# Altium footprint library TE_CONN_2-1926730-5.PcbLib: 1 footprints
Each footprint in its own frame and in the unit in brackets; x right, y up, seen from the top. Pads: shape width x height; smd on the part's side, far side on the other; paste and mask are expansions set on the pad; w line width, h text height; cw(c..) or ccw(c..) is an arc to the next point about the centre after c.
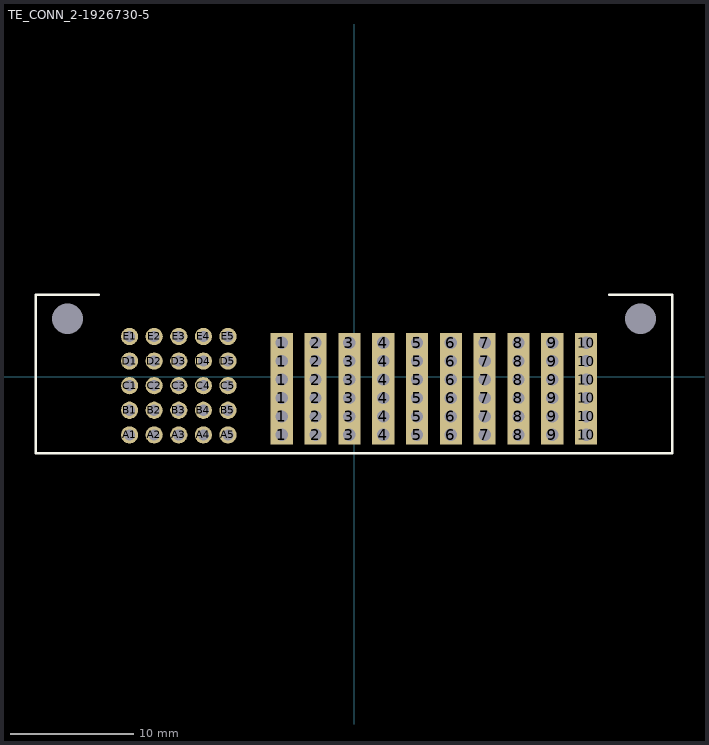
[diagram p0: the footprint, top view; thin cyan lines are the x and y axes]

## TE_CONN_2-1926730-5 [mm]
pads (87):
  round 0 hole 2.5 unplated: 0(-23.3,4.725) 0(23.3,4.725)
  rect 1.8x1.6 hole 1: 1(-5.875,-4.725) 1(-5.875,-3.225) 1(-5.875,-1.725) 1(-5.875,-0.225) 1(-5.875,1.275) 1(-5.875,2.775) 2(-3.125,-4.725) 2(-3.125,-3.225) 2(-3.125,-1.725) 2(-3.125,-0.225) 2(-3.125,1.275) 2(-3.125,2.775) 3(-0.375,-4.725) 3(-0.375,-3.225) 3(-0.375,-1.725) 3(-0.375,-0.225) 3(-0.375,1.275) 3(-0.375,2.775) 4(2.375,-4.725) 4(2.375,-3.225) 4(2.375,-1.725) 4(2.375,-0.225) 4(2.375,1.275) 4(2.375,2.775) 5(5.125,-4.725) 5(5.125,-3.225) 5(5.125,-1.725) 5(5.125,-0.225) 5(5.125,1.275) 5(5.125,2.775) 6(7.875,-4.725) 6(7.875,-3.225) 6(7.875,-1.725) 6(7.875,-0.225) 6(7.875,1.275) 6(7.875,2.775) 7(10.625,-4.725) 7(10.625,-3.225) 7(10.625,-1.725) 7(10.625,-0.225) 7(10.625,1.275) 7(10.625,2.775) 8(13.375,-4.725) 8(13.375,-3.225) 8(13.375,-1.725) 8(13.375,-0.225) 8(13.375,1.275) 8(13.375,2.775) 9(16.125,-4.725) 9(16.125,-3.225) 9(16.125,-1.725) 9(16.125,-0.225) 9(16.125,1.275) 9(16.125,2.775) 10(18.875,-4.725) 10(18.875,-3.225) 10(18.875,-1.725) 10(18.875,-0.225) 10(18.875,1.275) 10(18.875,2.775)
  round 1.4 hole 0.9: A1(-18.25,-4.725) A2(-16.25,-4.725) A3(-14.25,-4.725) A4(-12.25,-4.725) A5(-10.25,-4.725) B1(-18.25,-2.725) B2(-16.25,-2.725) B3(-14.25,-2.725) B4(-12.25,-2.725) B5(-10.25,-2.725) C1(-18.25,-0.725) C2(-16.25,-0.725) C3(-14.25,-0.725) C4(-12.25,-0.725) C5(-10.25,-0.725) D1(-18.25,1.275) D2(-16.25,1.275) D3(-14.25,1.275) D4(-12.25,1.275) D5(-10.25,1.275) E1(-18.25,3.275) E2(-16.25,3.275) E3(-14.25,3.275) E4(-12.25,3.275) E5(-10.25,3.275)
Top Overlay:
  lines w0.2: -20.775,6.675 -25.875,6.675 -25.875,-6.225 25.875,-6.225 25.875,6.675 20.775,6.675
3D body "TE_CONN_2-1926730-5.stp": height 9.03, standoff -4.98, extent -25.86,-19.825 25.85,6.675